# Altium footprint library 野火_STM32F103C8T6核心板_V1.0_PCB封装库_AD格式.PcbLib: 14 footprints
Each footprint in its own frame and in the unit in brackets; x right, y up, seen from the top. Pads: shape width x height; smd on the part's side, far side on the other; paste and mask are expansions set on the pad; w line width, h text height; cw(c..) or ccw(c..) is an arc to the next point about the centre after c.
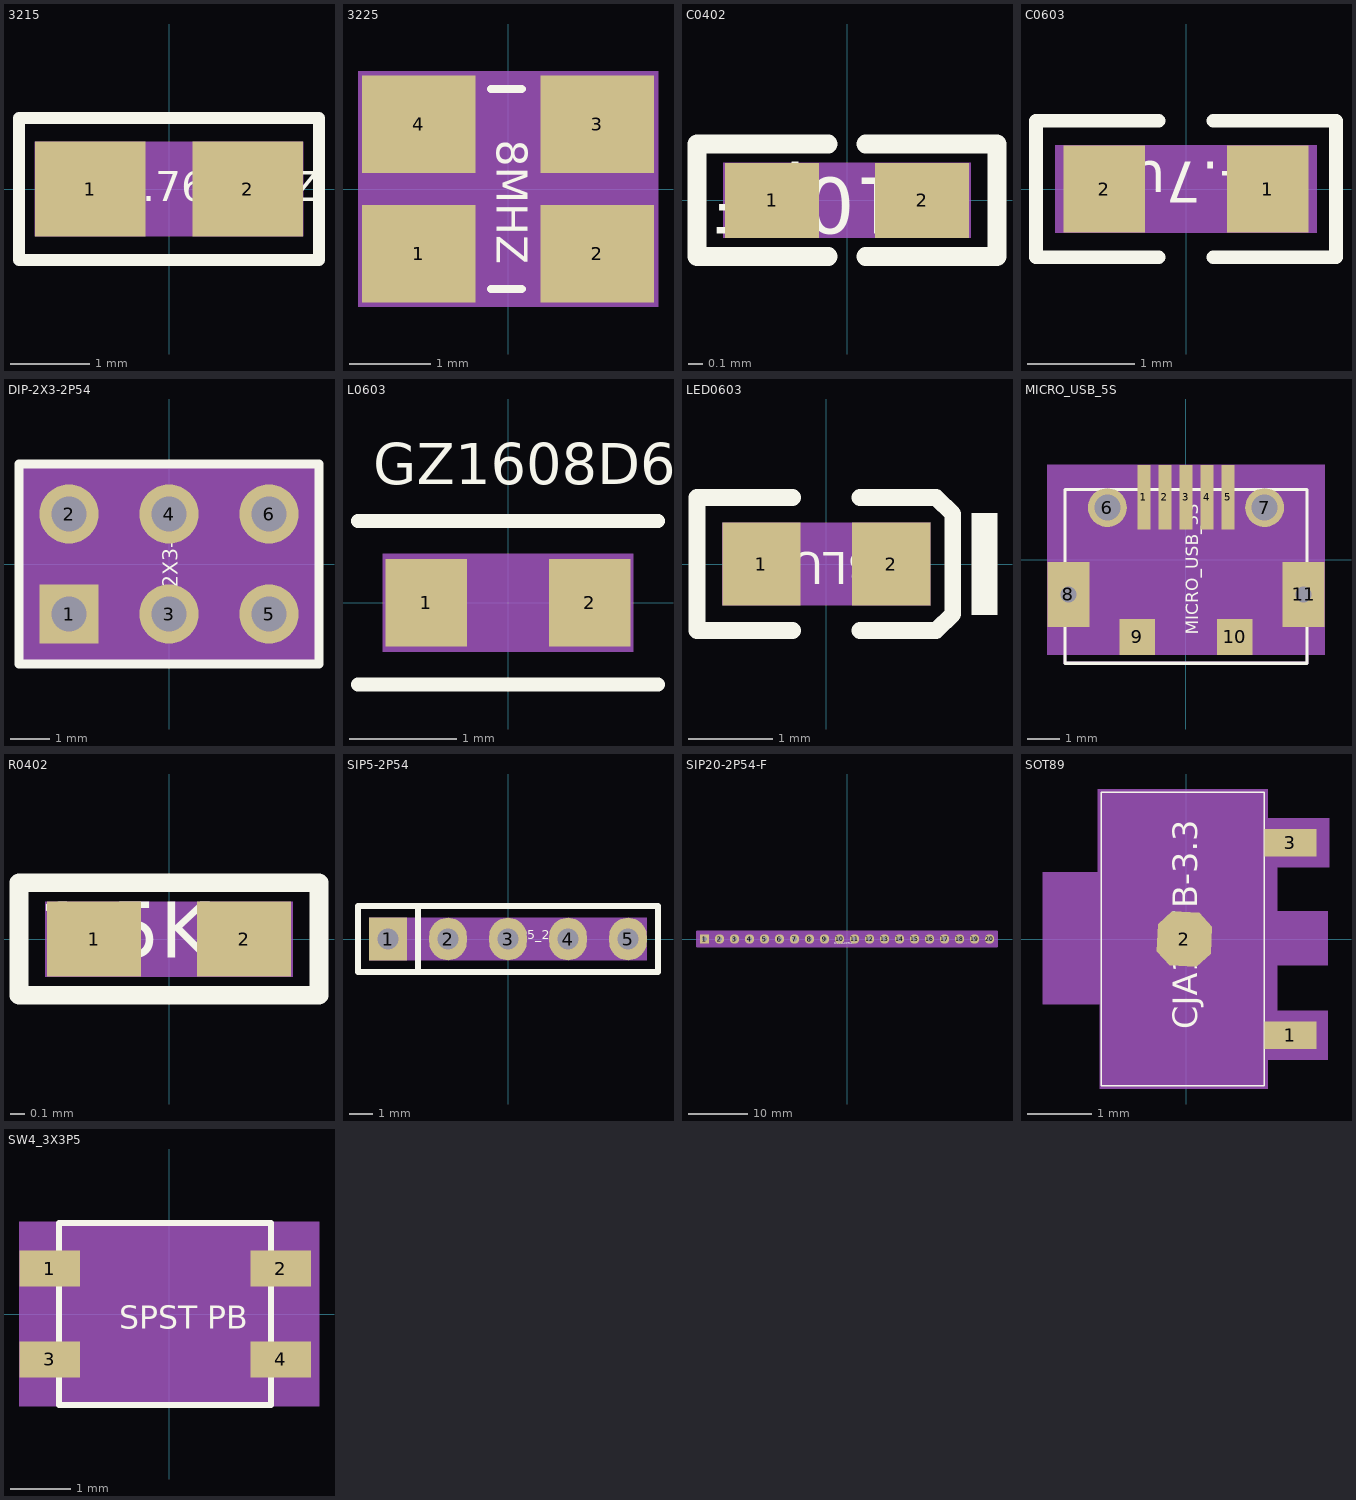
[diagram p0: the footprints below, top view; thin cyan lines are the x and y axes]

## 3215 [mm] "3215"
pads (2):
  rect 1.4x1.2 smd: 1(-1,0) 2(1,0)
Top Overlay:
  lines w0.15: -1.9,-0.9 1.9,-0.9 1.9,0.9 -1.9,0.9 -1.9,-0.9
  text "32.768KHZ" at -1.001,-0.152 h0.38
Mechanical 9:
  text "1" at -1,0.152 h0.38
  text "2" at 1,0.152 h0.38
Mechanical 10:
  region: -1.7,-0.6 1.7,-0.6 1.7,0.6 -1.7,0.6

## 3225 [mm] "3225"
pads (4):
  rect 1.4x1.2 smd: 1(-1.1,-0.8) 2(1.1,-0.8) 3(1.1,0.8) 4(-1.1,0.8)
Top Overlay:
  lines w0.1: -0.211,-1.232 0.17,-1.232 ; -0.211,1.232 0.17,1.232
  text "8MHZ" at -0.14,0.61 h0.38
Mechanical 9:
  text "1" at -1.1,-0.648 h0.38
  text "3" at 1.1,0.952 h0.38
  text "4" at -1.1,0.952 h0.38
  text "2" at 1.1,-0.648 h0.38
Mechanical 10:
  region: -1.85,-1.45 1.85,-1.45 1.85,1.45 -1.85,1.45

## C0402 [mil] "C0402"
pads (2):
  rect 25x20 smd: 1(-20,0) 2(20,0)
Top Overlay:
  lines w5: -5,-15 -40,-15 -40,15 -5,15 ; 5,-15 40,-15 40,15 5,15
  text "10pF" at 15.15,6 h15
Mechanical 9:
  text "1" at -20,-10 h25
  text "2" at 20,-10 h25
Mechanical 10:
  region: -33,10 33,10 33,-10 -33,-10

## C0603 [mil] "C0603"
pads (2):
  rect 30x32 smd: 1(30,0) 2(-30,0)
Top Overlay:
  lines w5: -10,-25 -55,-25 -55,25 -10,25 ; 10,-25 55,-25 55,25 10,25
  text "4.7uF" at 25.2,10 h15
Mechanical 9:
  text "1" at 20,0 h25
  text "2" at -40,0 h25
Mechanical 13:
  text "C0603" at 117,-37 h50
Mechanical 14:
  region: 48,-15.99 -48,-15.99 -48,15.99 48,15.99

## DIP-2X3-2P54 [mm] "DIP-2X3-2P54"
pads (6):
  rect 1.5x1.5 / inner round 1.524 / far side rect 1.5x1.5 hole 0.9: 1(-2.54,-1.27)
  round 1.5 / inner round 1.524 / far side round 1.5 hole 0.9: 2(-2.54,1.27) 3(0,-1.27) 4(0,1.27) 5(2.54,-1.27) 6(2.54,1.27)
Top Overlay:
  lines w0.22: -3.54,2.54 -3.81,2.54 ; -3.81,2.54 -3.81,-2.54 3.81,-2.54 3.81,2.54 -3.81,2.54
  text "DIP-2X3-2P54" at 0.216,-1.676 h0.38
Mechanical 9:
  text "4" at 0,1.016 h0.64
  text "3" at 0,-1.524 h0.64
  text "1" at -2.54,-1.524 h0.64
  text "2" at -2.54,1.016 h0.64
  text "5" at 2.54,-1.524 h0.64
  text "6" at 2.54,1.016 h0.64
Mechanical 10:
  region: -3.81,-2.54 3.81,-2.54 3.81,2.54 -3.81,2.54
Mechanical 11:
  text ".Designator" at -3.683,2.464 h0.89

## L0603 [mil] "L0603"
pads (2):
  rect 30x32 smd: 1(-30,0) 2(30,0)
Top Overlay:
  lines w5: -55,-29.99 55,-29.99 ; -55,29.99 55,29.99
  text "GZ1608D601TF" at -49.49,43.41 h15
Mechanical 9:
  text "1" at -37.07,7.07 h25
  text "2" at 22.92,7.07 h25
Mechanical 10:
  region: -46,18 46,18 46,-18 -46,-18
Mechanical 11:
  text "L0603" at -115,40 h50
Multi-Layer:
  region: -49,-20 48.99,-20 49,20 -49,20

## LED0603 [mm] "LED0603"
pads (2):
  rect 0.93x0.98 smd: 1(-0.77,0) 2(0.77,0)
Top Overlay:
  pour cut-out: 1.725,-0.6 2.025,-0.6 2.025,0.6 1.725,0.6
  lines w0.2: -0.4,-0.79 -1.535,-0.79 -1.535,0.79 -0.4,0.79 ; 0.4,-0.79 1.3,-0.79 1.5,-0.597 1.5,0.597 1.3,0.79 0.4,0.79
  text "BLUE" at 0.61,0.14 h0.38
Mechanical 9:
  text "2" at 1.024,0 h0.64
  text "1" at -0.516,0 h0.64
Mechanical 10:
  region: -1.235,-0.49 1.235,-0.49 1.235,0.49 -1.235,0.49

## LQFP48-050-0707 [mm] "LQFP48-050-0707"
pads (48):
  oval 4021.486x4021.766 smd: 1(-4.225,2.75) 2(-4.225,2.25) 3(-4.225,1.75) 4(-4.225,1.25) 5(-4.225,0.75) 6(-4.225,0.25) 7(-4.225,-0.25) 8(-4.225,-0.75) 9(-4.225,-1.25) 10(-4.225,-1.75) 11(-4.225,-2.25) 12(-4.225,-2.75) 25(4.225,-2.75) 26(4.225,-2.25) 27(4.225,-1.75) 28(4.225,-1.25) 29(4.225,-0.75) 30(4.225,-0.25) 31(4.225,0.25) 32(4.225,0.75) 33(4.225,1.25) 34(4.225,1.75) 35(4.225,2.25) 36(4.225,2.75)
  oval 4021.766x4021.486 smd: 13(-2.75,-4.225) 14(-2.25,-4.225) 15(-1.75,-4.225) 16(-1.25,-4.225) 17(-0.75,-4.225) 18(-0.25,-4.225) 19(0.25,-4.225) 20(0.75,-4.225) 21(1.25,-4.225) 22(1.75,-4.225) 23(2.25,-4.225) 24(2.75,-4.225) 37(2.75,4.225) 38(2.25,4.225) 39(1.75,4.225) 40(1.25,4.225) 41(0.75,4.225) 42(0.25,4.225) 43(-0.25,4.225) 45(-1.25,4.225) 46(-1.75,4.225) 47(-2.25,4.225) 48(-2.75,4.225)
  oval 0.279x0 smd: 44(-0.75,4.225)
Top Overlay:
  circle w0.152: c-2.286,2.286 r0.402
  circle w0.152: c-5.969,2.75 r0.254
  lines w0.152: -5.969,-1.75 -5.207,-1.75 ; -5.715,0.75 -5.207,0.75 ; -5.715,2.75 -5.207,2.75 ; -1.75,-5.715 -1.75,-5.207 ; -1.25,5.207 -1.25,5.715 ; 0.75,-5.969 0.75,-5.207 ; 1.25,5.207 1.25,5.969 ; 5.207,-2.75 5.715,-2.75 ; 5.207,-0.25 5.969,-0.25 ; 5.207,2.25 5.715,2.25 ; -3.175,-3.175 3.175,-3.175 3.175,3.175 -2.54,3.175 -3.175,2.54 -3.175,-3.175
  text ".Designator" at 4.786,-4.284 h0.76
  text "STM32F103C8T6" at 1.446,-1.356 h0.38
Mechanical 9:
  text "3" at -4.154,1.679 h0.25
  text "4" at -4.154,1.179 h0.25
  text "5" at -4.154,0.679 h0.25
  text "6" at -4.154,0.179 h0.25
  text "9" at -4.154,-1.321 h0.25
  text "2" at -4.154,2.179 h0.25
  text "46" at -1.609,4.084 h0.25
  text "45" at -1.109,4.084 h0.25
  text "43" at -0.109,4.084 h0.25
  text "42" at 0.391,4.084 h0.25
  text "41" at 0.891,4.084 h0.25
  text "40" at 1.391,4.084 h0.25
  text "39" at 1.891,4.084 h0.25
  text "20" at 0.891,-4.366 h0.25
  text "28" at 4.366,-1.391 h0.25
  text "27" at 4.366,-1.891 h0.25
  text "26" at 4.366,-2.391 h0.25
  text "25" at 4.366,-2.891 h0.25
  text "22" at 1.891,-4.366 h0.25
  text "21" at 1.391,-4.366 h0.25
  text "19" at 0.391,-4.366 h0.25
  text "18" at -0.109,-4.366 h0.25
  text "30" at 4.366,-0.391 h0.25
  text "29" at 4.366,-0.891 h0.25
  text "17" at -0.609,-4.366 h0.25
  text "16" at -1.109,-4.366 h0.25
  text "15" at -1.609,-4.366 h0.25
  text "14" at -2.109,-4.366 h0.25
  text "13" at -2.609,-4.366 h0.25
  text "12" at -4.084,-2.891 h0.25
  text "38" at 2.391,4.084 h0.25
  text "37" at 2.892,4.084 h0.25
  text "34" at 4.366,1.609 h0.25
  text "33" at 4.366,1.109 h0.25
  text "32" at 4.366,0.609 h0.25
  text "31" at 4.366,0.109 h0.25
  text "11" at -4.084,-2.391 h0.25
  text "10" at -4.084,-1.891 h0.25
  text "7" at -4.154,-0.321 h0.25
  text "44" at -0.609,4.084 h0.25
  text "24" at 2.892,-4.366 h0.25
  text "1" at -4.154,2.679 h0.25
  text "48" at -2.609,4.084 h0.25
  text "36" at 4.366,2.609 h0.25
  text "47" at -2.109,4.084 h0.25
  text "23" at 2.391,-4.366 h0.25
  text "8" at -4.154,-0.821 h0.25
  text "35" at 4.366,2.109 h0.25
Mechanical 10:
  region: -4.416,-4.416 4.416,-4.416 4.416,4.416 -4.416,4.416
Mechanical 11:
  lines w0.152: -3.175,-3.175 3.175,-3.175 3.175,3.175 -2.54,3.175 -3.175,2.54 -3.175,-3.175
Mechanical 12:
  pour cut-out: -4.416,-4.416 4.416,-4.416 4.416,4.416 -4.416,4.416

## MICRO_USB_5S [mm] "MICRO_USB_5S"
pads (11):
  rect 0.4x2 smd: 1(-1.3,1.93) 2(-0.65,1.93) 3(0,1.93) 4(0.65,1.93) 5(1.3,1.93)
  round 1.2 / inner round 1.524 / far side round 1.2 hole 0.8: 6(-2.425,1.61) 7(2.425,1.61)
  rect 1.3x2 / inner round 1.524 / far side rect 1.3x2 hole 0.5: 8(-3.625,-1.07) 11(3.625,-1.07)
  rect 1.1x1.1 smd: 9(-1.5,-2.38) 10(1.5,-2.38)
Top Overlay:
  lines w0.1: -3.73,-3.19 -3.73,2.165 3.73,2.165 3.73,-3.19 -3.73,-3.19
  text "MICRO_USB_5S" at 0.381,-2.311 h0.38
Mechanical 9:
  text "5" at 1.3,1.778 h0.38
  text "1" at -1.3,1.778 h0.38
  text "2" at -0.65,1.778 h0.38
  text "3" at 0,1.778 h0.38
  text "4" at 0.65,1.778 h0.38
  text "8" at -3.625,-1.222 h0.38
  text "6" at -2.425,1.356 h0.64
  text "9" at -1.5,-2.533 h0.38
  text "7" at 2.425,1.356 h0.64
  text "11" at 3.625,-1.375 h0.38
  text "10" at 1.5,-2.685 h0.38
Mechanical 10:
  region: -4.275,-2.93 4.275,-2.93 4.275,2.93 -4.275,2.93
Mechanical 11:
  lines w0.1: -3.73,-3.19 -3.73,2.165 3.73,2.165 3.73,-3.19 -3.73,-3.19

## R0402 [mil] "R0402"
pads (2):
  rect 25x20 smd: 1(-20,0) 2(20,0)
Top Overlay:
  lines w5: -40,-15 -40,15 40,15 40,-15 -40,-15
  text "1.5K" at -35,-5 h15
Mechanical 9:
  text "2" at 20,-0.2 h12
  text "1" at -20,-0.2 h12
Mechanical 10:
  region: -33,10 33,10 33,-10 -33,-10
Mechanical 11:
  text "R0402" at -115,36 h50

## SIP5-2P54 [mm] "SIP5-2P54"
pads (5):
  rect 1.6x1.8 / inner round 1.524 / far side rect 1.6x1.8 hole 0.9: 1(-5.08,0)
  oval 1.6x1.8 / inner round 1.524 / far side oval 1.6x1.8 hole 0.9: 2(-2.54,0) 3(0,0) 4(2.54,0) 5(5.08,0)
Top Overlay:
  lines w0.254: -3.81,-1.4 -3.81,1.4 ; -6.35,-1.4 -6.35,1.4 6.35,1.4 6.35,-1.4 -6.35,-1.4
  text "SIP5_2_54A" at 0,0 h0.38
Mechanical 9:
  text "2" at -2.54,-0.152 h0.38
  text "4" at 2.54,-0.152 h0.38
  text "1" at -5.08,-0.152 h0.38
  text "5" at 5.08,-0.152 h0.38
  text "3" at 0,-0.152 h0.38
Mechanical 10:
  region: -5.88,-0.9 5.88,-0.9 5.88,0.9 -5.88,0.9

## SIP20-2P54-F [mm] "SIP20-2P54-F"
pads (20):
  rect 1.6x1.6 / inner round 1.524 / far side rect 1.6x1.6 hole 0.9: 1(-24.13,0)
  round 1.6 / inner round 1.524 / far side round 1.6 hole 0.9: 2(-21.59,0) 3(-19.05,0) 4(-16.51,0) 5(-13.97,0) 6(-11.43,0) 7(-8.89,0) 8(-6.35,0) 9(-3.81,0) 10(-1.27,0) 11(1.27,0) 12(3.81,0) 13(6.35,0) 14(8.89,0) 15(11.43,0) 16(13.97,0) 17(16.51,0) 18(19.05,0) 19(21.59,0) 20(24.13,0)
Top Overlay:
  text "SIP20-2P54-F" at -2.159,-0.927 h0.38
Bottom Overlay:
  lines w0.305: -22.86,-1.27 -22.86,1.27
Mechanical 9:
  text "18" at 18.542,0 h0.64
  text "17" at 16.002,0 h0.64
  text "16" at 13.462,0 h0.64
  text "15" at 10.922,0 h0.64
  text "14" at 8.382,0 h0.64
  text "13" at 5.842,0 h0.64
  text "12" at 3.302,0 h0.64
  text "7" at -9.144,0 h0.64
  text "6" at -11.684,0 h0.64
  text "5" at -14.224,0 h0.64
  text "4" at -16.764,0 h0.64
  text "9" at -4.064,0 h0.64
  text "8" at -6.604,0 h0.64
  text "11" at 0.762,0 h0.64
  text "10" at -1.778,0 h0.64
  text "3" at -19.304,0 h0.64
  text "20" at 23.622,0 h0.64
  text "1" at -24.384,0 h0.64
  text "2" at -21.844,0 h0.64
  text "19" at 21.082,0 h0.64
Mechanical 10:
  region: -25.4,1.27 -25.4,-1.27 25.4,-1.27 25.4,1.27
  lines w0.305: -25.4,-1.27 -25.4,1.27 25.4,1.27 25.4,-1.27 -25.4,-1.27
Mechanical 11:
  text ".Designator" at -25.4,1.27 h0.89

## SOT89 [mil] "SOT89"
pads (3):
  rect 32x17 smd: 1(64,-59) 3(64,59)
  oct 33.3x33.3 smd rot 87: 2(-1,0)
Top Overlay:
  lines w1: -52,-90 48,-90 48,90 -52,90 -52,-90
  text ".Designator" at -94,-20.5 h30
  text "CJA117B-3.3" at 7,-55.5 h15
Mechanical 9:
  text "2" at 93,28 h25
  text "3" at 92,86 h25
  text "1" at 91,-29 h25
Mechanical 13:
  lines w1: -52,-90 48,-90 48,90 -52,90 -52,-90
Mechanical 14:
  region: -2,92 -54,92 -54,41 -88,41 -88,-40 -53,-40 -53,-92 50,-92 50,-74 87,-74 87,-44 56,-44 56,-16 87,-16 87,17 56,17 56,44 88,44 88,74 50,74 50,92

## SW4_3X3P5 [mm] "SW4_3X3P5"
pads (4):
  rect 1x0.6 smd: 1(-1.968,0.75) 2(1.841,0.75) 3(-1.968,-0.75) 4(1.841,-0.75)
Top Overlay:
  lines w0.1: -1.814,-1.5 -1.814,1.5 1.687,1.5 1.687,-1.5 -1.814,-1.5
  text "SPST PB" at -0.82,-0.241 h0.38
Mechanical 9:
  text "1" at -2.222,0.75 h0.64
  text "2" at 1.587,0.75 h0.64
  text "3" at -2.222,-0.75 h0.64
  text "4" at 1.587,-0.75 h0.64
Mechanical 10:
  region: -2.476,-1.524 2.476,-1.524 2.476,1.524 -2.476,1.524